# Altium footprint library CanRotor_Mini(PCB).PcbLib: 22 footprints (part 2 of 2)
Each footprint in its own frame and in the unit in brackets; x right, y up, seen from the top. Pads: shape width x height; smd on the part's side, far side on the other; paste and mask are expansions set on the pad; w line width, h text height; cw(c..) or ccw(c..) is an arc to the next point about the centre after c.
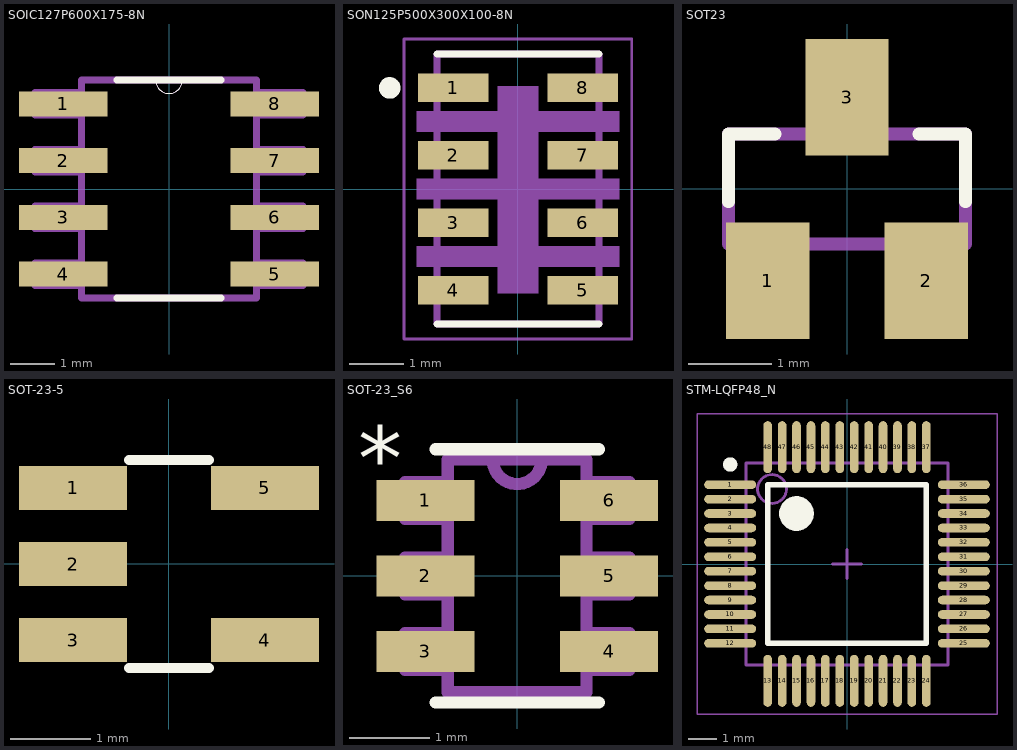
[diagram p1: the footprints below, top view; thin cyan lines are the x and y axes]

## SOIC127P600X175-8N [mil]
pads (8):
  rect 78x22 smd: 1(-93,75) 2(-93,25) 3(-93,-25) 4(-93,-75) 5(93,-75) 6(93,-25) 7(93,25) 8(93,75)
Top Overlay:
  lines w0: -12,96 ccw(c0,96) 12,96
  lines w6: -46,-96 46,-96 ; -46,96 -12,96 12,96 46,96
Mechanical 4:
  lines w0: -12,96 ccw(c0,96) 12,96 cw(c0,96) -12,96
  lines w6: -118,-85 -77,-85 ; -118,-85 -118,-65 ; -118,-85 -77,-85 ; -118,-85 -118,-65 ; -118,-65 -77,-65 ; -118,-65 -77,-65 ; -118,-35 -77,-35 ; -118,-35 -118,-15 ; -118,-35 -77,-35 ; -118,-35 -118,-15 ; -118,-15 -77,-15 ; -118,-15 -77,-15 ; -118,15 -77,15 ; -118,15 -118,35 ; -118,15 -77,15 ; -118,15 -118,35 ; -118,35 -77,35 ; -118,35 -77,35 ; -118,65 -77,65 ; -118,65 -118,85 ; -118,65 -77,65 ; -118,65 -118,85 ; -118,85 -77,85 ; -118,85 -77,85 ; -77,-96 -77,96 ; -77,-96 77,-96 ; -77,-96 -77,96 ; -77,-96 77,-96 ; -77,-85 -77,-65 ; -77,-85 -77,-65 ; -77,-35 -77,-15 ; -77,-35 -77,-15 ; -77,15 -77,35 ; -77,15 -77,35 ; -77,65 -77,85 ; -77,65 -77,85 ; -77,96 -12,96 ; -77,96 -12,96 ; -12,96 12,96 ; -12,96 12,96 ; 12,96 77,96 ; 12,96 77,96 ; 77,-96 77,96 ; 77,-96 77,96 ; 77,-85 118,-85 ; 77,-85 77,-65 ; 77,-85 118,-85 ; 77,-85 77,-65 ; 77,-65 118,-65 ; 77,-65 118,-65 ; 77,-35 118,-35 ; 77,-35 77,-15 ; 77,-35 118,-35 ; 77,-35 77,-15 ; 77,-15 118,-15 ; 77,-15 118,-15 ; 77,15 118,15 ; 77,15 77,35 ; 77,15 118,15 ; 77,15 77,35 ; 77,35 118,35 ; 77,35 118,35 ; 77,65 118,65 ; 77,65 77,85 ; 77,65 118,65 ; 77,65 77,85 ; 77,85 118,85 ; 77,85 118,85 ; 118,-85 118,-65 ; 118,-85 118,-65 ; 118,-35 118,-15 ; 118,-35 118,-15 ; 118,15 118,35 ; 118,15 118,35 ; 118,65 118,85 ; 118,65 118,85
3D body "User Library-SOIC-8-1.SLDPRT": height 67.9, standoff -1, extent -118.1,-96.46 118.12,96.46

## SON125P500X300X100-8N [mm]
pads (8):
  rect 1.31x0.53 smd: 1(-1.2,1.875) 2(-1.2,0.625) 3(-1.2,-0.625) 4(-1.2,-1.875) 5(1.2,-1.875) 6(1.2,-0.625) 7(1.2,0.625) 8(1.2,1.875)
Top Overlay:
  circle w0.2: c-2.377,1.873 r0.1
  lines w0.127: -1.5,-2.5 1.5,-2.5 ; -1.5,2.5 1.5,2.5
Mechanical 4:
  circle w0.2: c-0.877,1.873 r0.1
  circle w0.2: c-0.877,1.873 r0.1
  region: -0.375,1.905 0.381,1.905 0.381,-1.935 -0.375,-1.935
  region: -0.375,1.905 0.381,1.905 0.381,-1.935 -0.375,-1.935
  region: -0.375,1.905 0.381,1.905 0.381,-1.935 -0.375,-1.935
  region: -1.877,-1.062 1.875,-1.062 1.875,-1.439 -1.877,-1.439
  region: -1.878,-1.062 1.875,-1.062 1.875,-1.44 -1.878,-1.44
  region: -1.878,-1.062 1.875,-1.062 1.875,-1.44 -1.878,-1.44
  region: -1.877,0.188 1.875,0.188 1.875,-0.188 -1.877,-0.188
  region: -1.878,0.188 1.875,0.188 1.875,-0.188 -1.878,-0.188
  region: -1.878,0.188 1.875,0.188 1.875,-0.188 -1.878,-0.188
  region: -1.876,1.438 1.875,1.438 1.875,1.063 -1.876,1.063
  region: -1.878,1.438 1.875,1.438 1.875,1.064 -1.878,1.064
  region: -1.875,1.438 1.875,1.438 1.875,1.063 -1.875,1.063
  region: -0.375,1.905 0.381,1.905 0.381,-1.935 -0.375,-1.935
  region: -0.375,1.905 0.381,1.905 0.381,-1.935 -0.375,-1.935
  region: -0.375,1.905 0.381,1.905 0.381,-1.935 -0.375,-1.935
  region: -1.877,-1.062 1.875,-1.062 1.875,-1.439 -1.877,-1.439
  region: -1.878,-1.062 1.875,-1.062 1.875,-1.44 -1.878,-1.44
  region: -1.878,-1.062 1.875,-1.062 1.875,-1.44 -1.878,-1.44
  region: -1.877,0.188 1.875,0.188 1.875,-0.188 -1.877,-0.188
  region: -1.878,0.188 1.875,0.188 1.875,-0.188 -1.878,-0.188
  region: -1.878,0.188 1.875,0.188 1.875,-0.188 -1.878,-0.188
  region: -1.876,1.438 1.875,1.438 1.875,1.063 -1.876,1.063
  region: -1.878,1.438 1.875,1.438 1.875,1.064 -1.878,1.064
  region: -1.875,1.438 1.875,1.438 1.875,1.063 -1.875,1.063
  lines w0.127: -1.5,-2.5 1.5,-2.5 ; -1.5,-2.5 -1.5,2.5 ; -1.5,-2.5 1.5,-2.5 ; -1.5,-2.5 -1.5,2.5 ; -1.5,2.5 1.5,2.5 ; -1.5,2.5 1.5,2.5 ; 1.5,-2.5 1.5,2.5 ; 1.5,-2.5 1.5,2.5
Mechanical 16:
  lines w0.05: -2.11,-2.78 2.11,-2.78 2.11,2.78 -2.11,2.78 -2.11,-2.78
3D body "User Library-ms5611_STEP.SLDPRT": height 1.02, standoff -0.01, extent -1.5,-2.5 1.5,2.5

## SOT23 [mm]
pads (3):
  rect 1x1.4 smd: 1(-0.95,-1.1) 2(0.95,-1.1) 3(0,1.1)
Top Overlay:
  lines w0.152: -1.422,-0.152 -1.422,0.66 -0.864,0.66 ; 0.864,0.66 1.422,0.66 1.422,-0.152
Mechanical 1:
  lines w0.152: -1.422,-0.66 1.422,-0.66 1.422,0.66 -1.422,0.66 -1.422,-0.66
3D body "CircuitWorks-SOT-23.SLDPRT": height 1.06, standoff -0.04, extent -1.5,-1.25 1.5,1.25

## SOT-23-5 [mm]
pads (5):
  rect 1.35x0.55 smd: 1(-1.2,0.95) 2(-1.2,0) 3(-1.2,-0.95) 4(1.2,-0.95) 5(1.2,0.95)
Top Overlay:
  lines w0.127: -0.5,-1.3 0.5,-1.3 ; -0.5,1.3 0.5,1.3
3D body "CircuitWorks-SOT-23-5.SLDPRT": height 1.06, standoff -0.04, extent -1.377,-1.5 1.123,1.5

## SOT-23_S6 [mil]
pads (6):
  rect 48x20 smd: 1(-45,37) 2(-45,0) 3(-45,-37) 4(45,-37) 5(45,0) 6(45,37)
Top Overlay:
  lines w6: -40,-62 40,-62 ; -40,62 40,62
  text "*" at -78,42.16 h31.5
Mechanical 4:
  lines w6: -55,-46 -55,-28 ; -55,-46 -34,-46 ; -55,-46 -55,-28 ; -55,-46 -34,-46 ; -55,-28 -34,-28 ; -55,-28 -34,-28 ; -55,-9 -55,9 ; -55,-9 -34,-9 ; -55,-9 -55,9 ; -55,-9 -34,-9 ; -55,9 -34,9 ; -55,9 -34,9 ; -55,28 -55,46 ; -55,28 -34,28 ; -55,28 -55,46 ; -55,28 -34,28 ; -55,46 -34,46 ; -55,46 -34,46 ; -34,-57 34,-57 ; -34,-57 -34,57 ; -34,-57 34,-57 ; -34,-57 -34,57 ; -34,-46 -34,-28 ; -34,-46 -34,-28 ; -34,-9 -34,9 ; -34,-9 -34,9 ; -34,28 -34,46 ; -34,28 -34,46 ; -34,57 -12,57 ; -34,57 -12,57 ; -12,57 ccw(c0,57) 12,57 ; -12,57 ccw(c0,57) 12,57 ; -12,57 12,57 ; -12,57 12,57 ; 12,57 34,57 ; 12,57 34,57 ; 34,-57 34,57 ; 34,-57 34,57 ; 34,-46 34,-28 ; 34,-46 55,-46 ; 34,-46 34,-28 ; 34,-46 55,-46 ; 34,-28 55,-28 ; 34,-28 55,-28 ; 34,-9 34,9 ; 34,-9 55,-9 ; 34,-9 34,9 ; 34,-9 55,-9 ; 34,9 55,9 ; 34,9 55,9 ; 34,28 34,46 ; 34,28 55,28 ; 34,28 34,46 ; 34,28 55,28 ; 34,46 55,46 ; 34,46 55,46 ; 55,-46 55,-28 ; 55,-46 55,-28 ; 55,-9 55,9 ; 55,-9 55,9 ; 55,28 55,46 ; 55,28 55,46
  text "*" at -42,-5.84 h31.5
  text "*" at -42,-5.84 h31.5
3D body "User Library-SOT23-6-2.SLDPRT": height 56.09, standoff -1, extent -55.11,-57.09 55.12,57.09

## STM-LQFP48_N [mm]
pads (48):
  oval 1.8x0.3 smd: 1(-4.05,2.75) 2(-4.05,2.25) 3(-4.05,1.75) 4(-4.05,1.25) 5(-4.05,0.75) 6(-4.05,0.25) 7(-4.05,-0.25) 8(-4.05,-0.75) 9(-4.05,-1.25) 10(-4.05,-1.75) 11(-4.05,-2.25) 12(-4.05,-2.75) 25(4.05,-2.75) 26(4.05,-2.25) 27(4.05,-1.75) 28(4.05,-1.25) 29(4.05,-0.75) 30(4.05,-0.25) 31(4.05,0.25) 32(4.05,0.75) 33(4.05,1.25) 34(4.05,1.75) 35(4.05,2.25) 36(4.05,2.75)
  oval 0.3x1.8 smd: 13(-2.75,-4.05) 14(-2.25,-4.05) 15(-1.75,-4.05) 16(-1.25,-4.05) 17(-0.75,-4.05) 18(-0.25,-4.05) 19(0.25,-4.05) 20(0.75,-4.05) 21(1.25,-4.05) 22(1.75,-4.05) 23(2.25,-4.05) 24(2.75,-4.05) 37(2.75,4.05) 38(2.25,4.05) 39(1.75,4.05) 40(1.25,4.05) 41(0.75,4.05) 42(0.25,4.05) 43(-0.25,4.05) 44(-0.75,4.05) 45(-1.25,4.05) 46(-1.75,4.05) 47(-2.25,4.05) 48(-2.75,4.05)
Top Overlay:
  circle w0.25: c-4.05,3.45 r0.125
  circle w0.6: c-1.75,1.75 r0.3
  lines w0.2: -2.75,-2.75 -2.75,2.75 2.75,2.75 2.75,-2.75 -2.75,-2.75
Mechanical 13:
  circle w0.1: c-2.6,2.6 r0.5
  lines w0.1: -3.5,-3.5 -3.5,3.5 3.5,3.5 3.5,-3.5 -3.5,-3.5
Mechanical 15:
  lines w0.05: -5.2,-5.2 -5.2,5.2 5.2,5.2 5.2,-5.2 -5.2,-5.2
  lines w0.1: -0.5,0 0.5,0 ; 0,-0.5 0,0.5
3D body: height 1.6, standoff 0.05, extent -3.5,-3.5 3.5,3.5